# Altium schematic symbol library BZT52-C5V1-QX.SchLib: 1 symbol
Pins are listed as number, name and electrical type; pins without a type are passive.

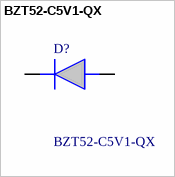
[diagram p0: symbol BZT52-C5V1-QX]

## BZT52-C5V1-QX
designator D?
BZT52-Q series - Voltage regulator diodes@en-us; Manufacturer_Name: Nexperia; Geometry.Height: 1.3mm; Manufacturer_Part_Number: BZT52-C5V1-QX; Mouser Part Number: 771-BZT52-C5V1-QX; Mouser Price/Stock: https://www.mouser.co.uk/ProductDetail/Nexperia/BZT52-C5V1-QX?qs=rQFj71Wb1eWpKfJh0U4RGA%3D%3D; Arrow Part Number: *; Arrow Price/Stock: *; Datasheet Link: https://assets.nexperia.com/documents/data-sheet/BZT52-Q_SER.pdf
footprint SOD3616X130N
pins: 1 K, 2 A